# Altium footprint library ADuM1400.PcbLib: 2 footprints
Each footprint in its own frame and in the unit in brackets; x right, y up, seen from the top. Pads: shape width x height; smd on the part's side, far side on the other; paste and mask are expansions set on the pad; w line width, h text height; cw(c..) or ccw(c..) is an arc to the next point about the centre after c.
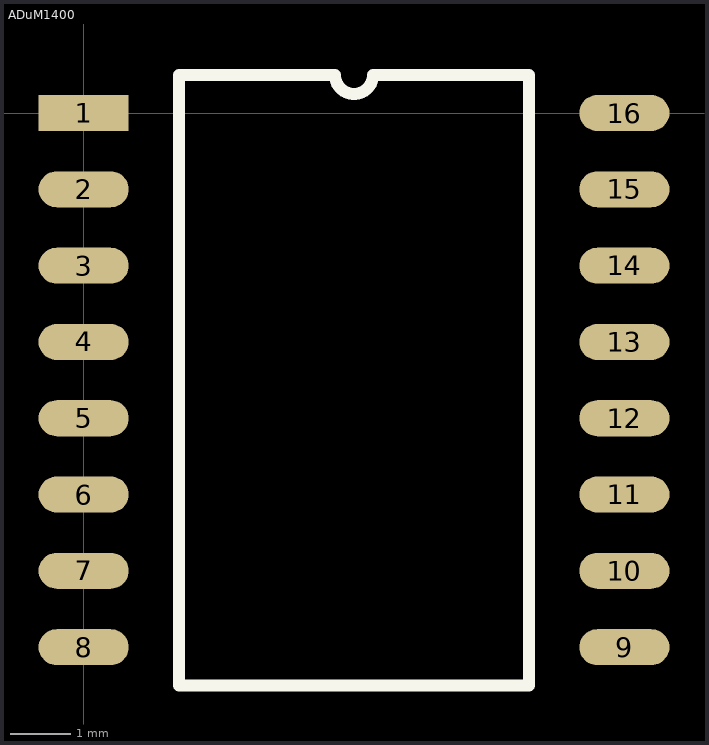
[diagram p0: the footprints below, top view; thin cyan lines are the x and y axes]

## ADuM1400 [mm]
pads (16):
  rect 1.5x0.6 smd: 1(0,0)
  oval 1.5x0.6 smd: 2(0,-1.27) 3(0,-2.54) 4(0,-3.81) 5(0,-5.08) 6(0,-6.35) 7(0,-7.62) 8(0,-8.89) 9(9,-8.89) 10(9,-7.62) 11(9,-6.35) 12(9,-5.08) 13(9,-3.81) 14(9,-2.54) 15(9,-1.27) 16(9,0)
Top Overlay:
  lines w0.2: 1.585,-9.525 1.585,0.635 4.182,0.635 ccw(c4.5,0.635) 4.817,0.635 7.415,0.635 7.415,-9.525 1.585,-9.525

## PCBComponent_1 [mm]